# Altium footprint library PCB - MISC - TE0790-Base.PCBLIB: 1 footprints
Each footprint in its own frame and in the unit in brackets; x right, y up, seen from the top. Pads: shape width x height; smd on the part's side, far side on the other; paste and mask are expansions set on the pad; w line width, h text height; cw(c..) or ccw(c..) is an arc to the next point about the centre after c.
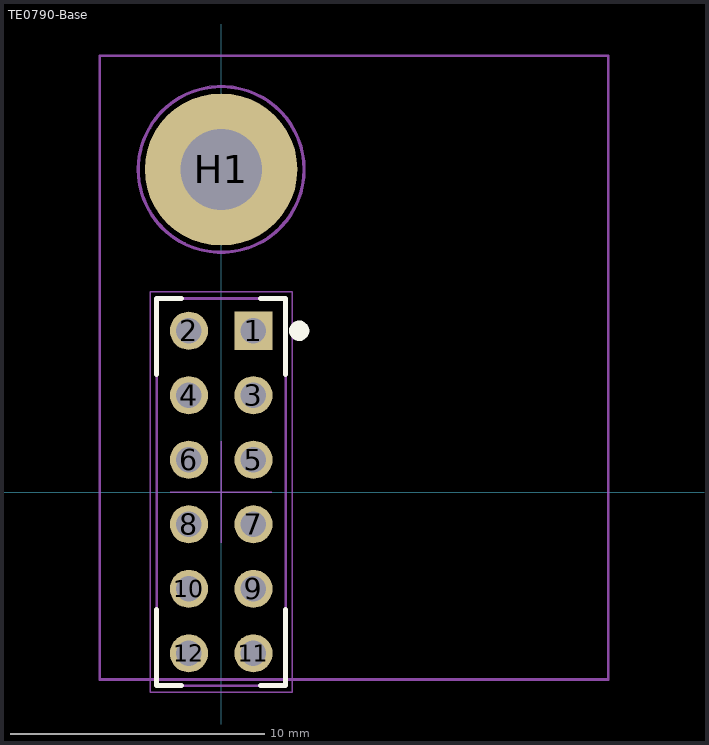
[diagram p0: the footprint, top view; thin cyan lines are the x and y axes]

## TE0790-Base [mm]
height 15
pads (13):
  rect 1.5x1.5 hole 1: 1(1.27,6.35)
  round 1.5 hole 1: 2(-1.27,6.35) 3(1.27,3.81) 4(-1.27,3.81) 5(1.27,1.27) 6(-1.27,1.27) 7(1.27,-1.27) 8(-1.27,-1.27) 9(1.27,-3.81) 10(-1.27,-3.81) 11(1.27,-6.35) 12(-1.27,-6.35)
  round 6 hole 3.2: H1(0,12.7)
Top Overlay:
  circle w0.4: c3.07,6.35 r0.2
  lines w0.2: -2.54,-4.62 -2.54,-7.62 -1.56,-7.62 ; -2.54,4.62 -2.54,7.62 -1.56,7.62 ; 1.56,-7.62 2.54,-7.62 2.54,-4.62 ; 1.56,7.62 2.54,7.62 2.54,4.62
M5 Assembly Top:
  circle w0.1: c0,12.7 r1.6
  circle w0.1: c0,12.7 r3.25
  lines w0.1: -2.54,-7.62 2.54,-7.62 2.54,7.62 -2.54,7.62 -2.54,-7.62
  text "11" at 1,-5.23 h1
  text "12" at -2,-5.23 h1
  text "2" at -2,6.73 h1
  text "1" at 1,6.73 h1
  text ".Designator" at -4.75,-2.35 h1.52
Mechanical 11:
  lines w0.1: -4.78,-7.38 15.24,-7.38 15.24,17.174 -4.78,17.174 -4.78,-7.38
Mechanical 14:
  circle w0.1: c0,12.7 r3.25
  circle w0.1: c0,12.7 r1.6
Mechanical 15:
  circle w0.05: c0,12.7 r3.3
  lines w0.05: -2,0 2,0 ; -1,12.7 1,12.7 ; 0,-2 0,2 ; 0,11.7 0,13.7 ; -2.8,-7.88 2.8,-7.88 2.8,7.88 -2.8,7.88 -2.8,-7.88
Mechanical 16:
  circle w0.05: c0,12.7 r3.3
3D body "female_header_a-bl254-dg-g12d.stp": height 8.5, standoff -3.2, extent -2.5,-7.745 2.5,7.745
3D body "TE0790-01.step": height 14.23, standoff 2.57, extent -4.78,-7.62 15.24,18.697